# Altium integrated library Analog Devices Data Converters Digital-to-Analog Converters.IntLib: 2231 symbols (part 33 of 181)
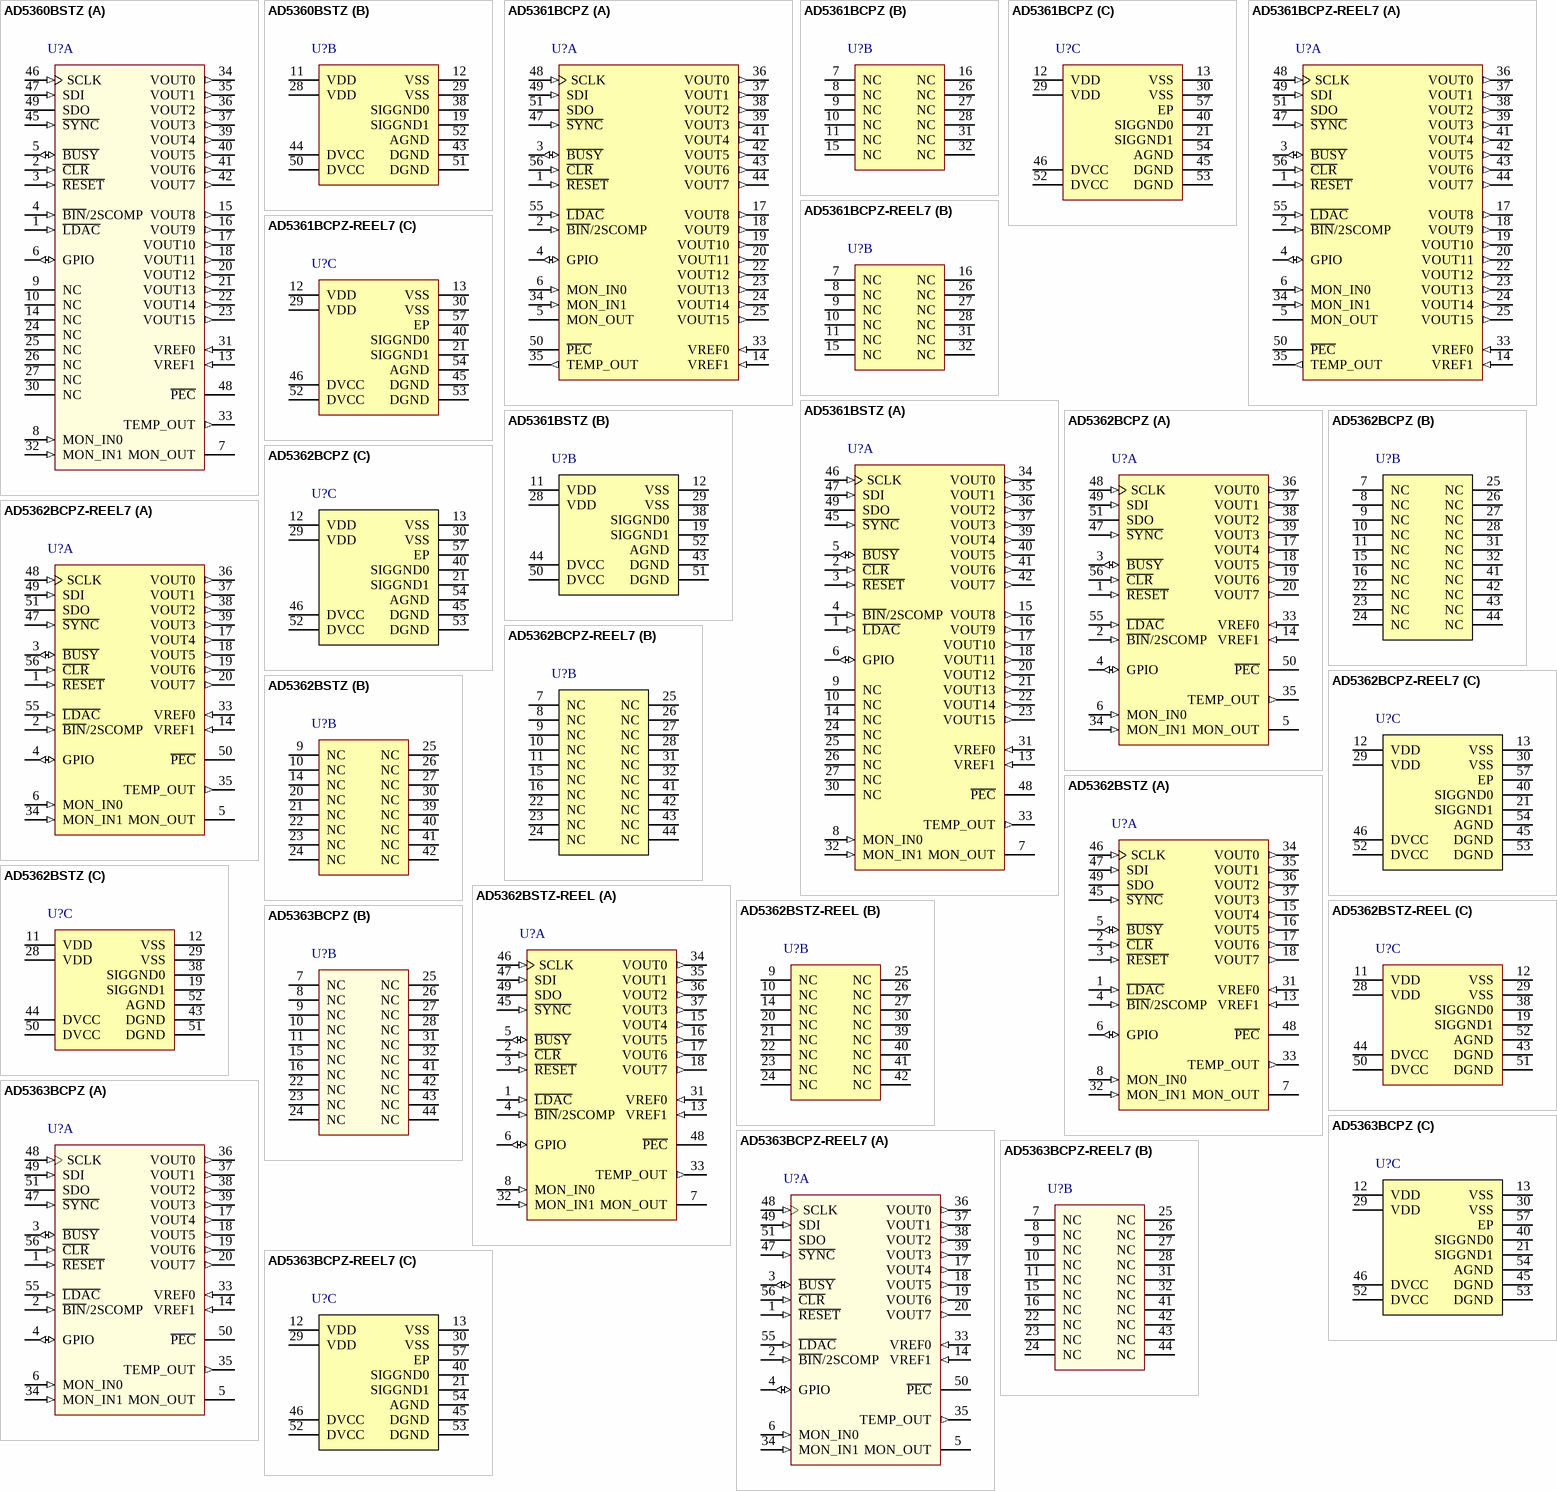
[diagram p146: symbols AD5360BSTZ to AD5363BCPZ-REEL7]

## AD5363BCPZ
designator U?
14-Bit Voltage Output Digital-to-Analog Converter with Serial Interface, -40 to +85 degC, CP-56-1, Pb-Free, Tray; Generic Part Number: AD5363; Manufacturer: Analog Devices; PartNumber: AD5363BCPZ; # DAC Outputs: 8; Max V+: 16.5V; Resolution (Bits): 14; Settling Time: 20µs; Single Supply: No; DatasheetVersion: Rev.A; PackageVersion: 112805-0; PackageReference: CP-56-1; PackageDescription: 56-Lead Lead Frame Chip Scale Package [LFCSP_VQ], 8 x 8 mm Body, Very Thin Quad; Supplier 1: Digi-Key; Supplier Part Number 1: AD5363BCPZ-ND; Supplier 2: Farnell; Supplier Part Number 2: 1607240; Supplier 3: Mouser; Supplier Part Number 3: 584-AD5363BCPZ; Packing: Tray; RoHS: Y; Mounting Technology: Surface Mount; Code_JEDEC: MO-220-VLLD-2; ComponentLink1Description: Manufacturer URL; ComponentLink1URL: http://www.analog.com/en/index.html; ComponentLink2Description: Datasheet; ComponentLink2URL: http://www.analog.com/static/imported-files/data_sheets/AD5362_5363.pdf; ComponentLink3Description: Package Specification; ComponentLink3URL: http://www.analog.com/static/imported-files/packages/32698137492825CP_56_1.pdf; ComponentLink4Description: Product URL; ComponentLink4URL: http://www.analog.com/en/digital-to-analog-converters/da-converters/ad5363/products/product.html
footprint CP-56-1_N (QFN, 56-Leads, Body 8x8mm, Pitch 0.5mm, Thermal Pad 6.1x6.1mm, IPC Medium Density)
footprint CP-56-1_L (QFN, 56-Leads, Body 8x8mm, Pitch 0.5mm, Thermal Pad 6.1x6.1mm, IPC High Density)
footprint CP-56-1_M (QFN, 56-Leads, Body 8x8mm, Pitch 0.5mm, Thermal Pad 6.1x6.1mm, IPC Low Density)
part A pins: 1 ~{RESET} (in) "Digital Reset Input.", 2 ~{BIN}/2SCOMP (in) "Data Format Digital Input. Connecting this pin to DGND selects offset binary. Setting this pin to 1 selects twos complement. This input has a weak pull-down.", 3 ~{BUSY} (io) "Digital Input/Open-Drain Output. B\U\SY\ is open drain when it is an output. See the B\U\S\Y\ and L\D\A\C\ Functions section for more information.", 4 GPIO (io) "Digital I/O Pin. This pin can be configured as an input or output that can be read back or programmed high or low via the serial interface. When configured as an input, this pin has a weak pull-down.", 5 MON_OUT (hiz) "Analog Multiplexer Output. Any DAC output, the MON_IN0 input, or the MON_IN1 input can be routed to this output for monitoring", 6 MON_IN0 (in) "Analog Multiplexer Input. Can be routed to MON_OUT.", 14 VREF1 (in) "Reference Input for DAC 4 to DAC 7. This reference voltage is referred to AGND.", 17 VOUT4 (out) "DAC Output. Buffered analog outputs for each of the eight DAC channels. Each analog output is capable of driving an output load of 10 k ohm to ground. Typical output impedance of these amplifiers is 0.5 ohm.", 18 VOUT5 (out) "DAC Output. Buffered analog outputs for each of the eight DAC channels. Each analog output is capable of driving an output load of 10 k ohm to ground. Typical output impedance of these amplifiers is 0.5 ohm.", 19 VOUT6 (out) "DAC Output. Buffered analog outputs for each of the eight DAC channels. Each analog output is capable of driving an output load of 10 k ohm to ground. Typical output impedance of these amplifiers is 0.5 ohm.", 20 VOUT7 (out) "DAC Output. Buffered analog outputs for each of the eight DAC channels. Each analog output is capable of driving an output load of 10 k ohm to ground. Typical output impedance of these amplifiers is 0.5 ohm.", 33 VREF0 (in) "Reference Input for DAC 0 to DAC 3. This reference voltage is referred to AGND.", 34 MON_IN1 (in) "Analog Multiplexer Input. Can be routed to MON_OUT.", 35 TEMP_OUT (out) "Provides an output voltage proportional to the chip temperature, typically 1.46 V at 25degreesC with an output variation of 4.4 mV/degreesC", 36 VOUT0 (out) "DAC Output. Buffered analog outputs for each of the eight DAC channels. Each analog output is capable of driving an output load of 10 k ohm to ground. Typical output impedance of these amplifiers is 0.5 ohm.", 37 VOUT1 (out) "DAC Output. Buffered analog outputs for each of the eight DAC channels. Each analog output is capable of driving an output load of 10 k ohm to ground. Typical output impedance of these amplifiers is 0.5 ohm.", 38 VOUT2 (out) "DAC Output. Buffered analog outputs for each of the eight DAC channels. Each analog output is capable of driving an output load of 10 k ohm to ground. Typical output impedance of these amplifiers is 0.5 ohm.", 39 VOUT3 (out) "DAC Output. Buffered analog outputs for each of the eight DAC channels. Each analog output is capable of driving an output load of 10 k ohm to ground. Typical output impedance of these amplifiers is 0.5 ohm.", 47 ~{SYNC} (in) "Active Low or S\Y\N\C\ Input for SPI Interface. This is the frame synchronization signal for the SPI serial interface. See , , and the section for more details. Figure 4Figure 5Serial Interface", 48 SCLK (in) "Serial Clock Input for SPI Interface. See Figure 4, Figure 5, and the Serial Interface section for more details.", 49 SDI (in) "Serial Data Input for SPI Interface. See Figure 4, Figure 5, and the Serial Interface section for more details.", 50 ~{PEC} (oc) "Packet Error Check Output. This is an open-drain output with a 50 k ohm pull-up that goes low if the packet error check fails.", 51 SDO (hiz) "Serial Data Output for SPI Interface. See Figure 4, Figure 5, and the Serial Interface section for more details.", 55 ~{LDAC} (in) "Load DAC Logic Input (Active Low). See the BUSY and LDAC Functions section for more information", 56 ~{CLR} (in) "Asynchronous Clear Input (Level Sensitive, Active Low). See the Clear Function section for more information"
part B pins: 7 NC "No Connect.", 8 NC "No Connect.", 9 NC "No Connect.", 10 NC "No Connect.", 11 NC "No Connect.", 15 NC "No Connect.", 16 NC "No Connect.", 22 NC "No Connect.", 23 NC "No Connect.", 24 NC "No Connect.", 25 NC "No Connect.", 26 NC "No Connect.", 27 NC "No Connect.", 28 NC "No Connect.", 31 NC "No Connect.", 32 NC "No Connect.", 41 NC "No Connect.", 42 NC "No Connect.", 43 NC "No Connect.", 44 NC "No Connect."
part C pins: 12 VDD (power) "Positive Analog Power Supply; 9 V to 16.5 V for specified performance. These pins should be decoupled with 0.1 uF ceramic capacitors and 10 uF capacitors", 13 VSS (power) "Negative Analog Power Supply; -16.5 V to -8 V for specified performance. These pins should be decoupled with 0.1 uF ceramic capacitors and 10 uF capacitors.", 21 SIGGND1 (power) "Reference Ground for DAC 4 to DAC 7. VOUT4 to VOUT7 are referenced to this voltage.", 29 VDD (power) "Positive Analog Power Supply; 9 V to 16.5 V for specified performance. These pins should be decoupled with 0.1 uF ceramic capacitors and 10 uF capacitors", 30 VSS (power) "Negative Analog Power Supply; -16.5 V to -8 V for specified performance. These pins should be decoupled with 0.1 uF ceramic capacitors and 10 uF capacitors.", 40 SIGGND0 (power) "Reference Ground for DAC 0 to DAC 3. VOUT0 to VOUT3 are referenced to this voltage.", 45 DGND (power) "Ground for All Digital Circuitry. Both DGND pins should be connected to the DGND plane.", 46 DVCC (power) "Logic Power Supply; 2.5 V to 5.5 V. These pins should be decoupled with 0.1 uF ceramic capacitors and 10 uF capacitors.", 52 DVCC (power) "Logic Power Supply; 2.5 V to 5.5 V. These pins should be decoupled with 0.1 uF ceramic capacitors and 10 uF capacitors.", 53 DGND (power) "Ground for All Digital Circuitry. Both DGND pins should be connected to the DGND plane.", 54 AGND (power) "Ground for All Analog Circuitry. The AGND pin should be connected to the AGND plane.", 57 EP (power) "Exposed Paddle. Connect to VSS."

## AD5363BCPZ-REEL7
designator U?
14-Bit Voltage Output Digital-to-Analog Converter with Serial Interface, -40 to +85 degC, CP-56-1, Pb-Free, Reel; Generic Part Number: AD5363; Manufacturer: Analog Devices; PartNumber: AD5363BCPZ-REEL7; # DAC Outputs: 8; Max V+: 16.5V; Resolution (Bits): 14; Settling Time: 20µs; Single Supply: No; DatasheetVersion: Rev.A; PackageVersion: 112805-0; PackageReference: CP-56-1; PackageDescription: 56-Lead Lead Frame Chip Scale Package [LFCSP_VQ], 8 x 8 mm Body, Very Thin Quad; Supplier 1: Digi-Key; Supplier Part Number 1: AD5363BCPZ-REEL7-ND; Supplier 2: Mouser; Supplier Part Number 2: 584-AD5363BCPZ-R7; Packing: Reel; RoHS: Y; Mounting Technology: Surface Mount; Code_JEDEC: MO-220-VLLD-2; ComponentLink1Description: Manufacturer URL; ComponentLink1URL: http://www.analog.com/en/index.html; ComponentLink2Description: Datasheet; ComponentLink2URL: http://www.analog.com/static/imported-files/data_sheets/AD5362_5363.pdf; ComponentLink3Description: Package Specification; ComponentLink3URL: http://www.analog.com/static/imported-files/packages/32698137492825CP_56_1.pdf; ComponentLink4Description: Product URL; ComponentLink4URL: http://www.analog.com/en/digital-to-analog-converters/da-converters/ad5363/products/product.html
footprint CP-56-1_N (QFN, 56-Leads, Body 8x8mm, Pitch 0.5mm, Thermal Pad 6.1x6.1mm, IPC Medium Density)
footprint CP-56-1_L (QFN, 56-Leads, Body 8x8mm, Pitch 0.5mm, Thermal Pad 6.1x6.1mm, IPC High Density)
footprint CP-56-1_M (QFN, 56-Leads, Body 8x8mm, Pitch 0.5mm, Thermal Pad 6.1x6.1mm, IPC Low Density)
part A pins: 1 ~{RESET} (in) "Digital Reset Input.", 2 ~{BIN}/2SCOMP (in) "Data Format Digital Input. Connecting this pin to DGND selects offset binary. Setting this pin to 1 selects twos complement. This input has a weak pull-down.", 3 ~{BUSY} (io) "Digital Input/Open-Drain Output. B\U\SY\ is open drain when it is an output. See the B\U\S\Y\ and L\D\A\C\ Functions section for more information.", 4 GPIO (io) "Digital I/O Pin. This pin can be configured as an input or output that can be read back or programmed high or low via the serial interface. When configured as an input, this pin has a weak pull-down.", 5 MON_OUT (hiz) "Analog Multiplexer Output. Any DAC output, the MON_IN0 input, or the MON_IN1 input can be routed to this output for monitoring", 6 MON_IN0 (in) "Analog Multiplexer Input. Can be routed to MON_OUT.", 14 VREF1 (in) "Reference Input for DAC 4 to DAC 7. This reference voltage is referred to AGND.", 17 VOUT4 (out) "DAC Output. Buffered analog outputs for each of the eight DAC channels. Each analog output is capable of driving an output load of 10 k ohm to ground. Typical output impedance of these amplifiers is 0.5 ohm.", 18 VOUT5 (out) "DAC Output. Buffered analog outputs for each of the eight DAC channels. Each analog output is capable of driving an output load of 10 k ohm to ground. Typical output impedance of these amplifiers is 0.5 ohm.", 19 VOUT6 (out) "DAC Output. Buffered analog outputs for each of the eight DAC channels. Each analog output is capable of driving an output load of 10 k ohm to ground. Typical output impedance of these amplifiers is 0.5 ohm.", 20 VOUT7 (out) "DAC Output. Buffered analog outputs for each of the eight DAC channels. Each analog output is capable of driving an output load of 10 k ohm to ground. Typical output impedance of these amplifiers is 0.5 ohm.", 33 VREF0 (in) "Reference Input for DAC 0 to DAC 3. This reference voltage is referred to AGND.", 34 MON_IN1 (in) "Analog Multiplexer Input. Can be routed to MON_OUT.", 35 TEMP_OUT (out) "Provides an output voltage proportional to the chip temperature, typically 1.46 V at 25degreesC with an output variation of 4.4 mV/degreesC", 36 VOUT0 (out) "DAC Output. Buffered analog outputs for each of the eight DAC channels. Each analog output is capable of driving an output load of 10 k ohm to ground. Typical output impedance of these amplifiers is 0.5 ohm.", 37 VOUT1 (out) "DAC Output. Buffered analog outputs for each of the eight DAC channels. Each analog output is capable of driving an output load of 10 k ohm to ground. Typical output impedance of these amplifiers is 0.5 ohm.", 38 VOUT2 (out) "DAC Output. Buffered analog outputs for each of the eight DAC channels. Each analog output is capable of driving an output load of 10 k ohm to ground. Typical output impedance of these amplifiers is 0.5 ohm.", 39 VOUT3 (out) "DAC Output. Buffered analog outputs for each of the eight DAC channels. Each analog output is capable of driving an output load of 10 k ohm to ground. Typical output impedance of these amplifiers is 0.5 ohm.", 47 ~{SYNC} (in) "Active Low or S\Y\N\C\ Input for SPI Interface. This is the frame synchronization signal for the SPI serial interface. See , , and the section for more details. Figure 4Figure 5Serial Interface", 48 SCLK (in) "Serial Clock Input for SPI Interface. See Figure 4, Figure 5, and the Serial Interface section for more details.", 49 SDI (in) "Serial Data Input for SPI Interface. See Figure 4, Figure 5, and the Serial Interface section for more details.", 50 ~{PEC} (oc) "Packet Error Check Output. This is an open-drain output with a 50 k ohm pull-up that goes low if the packet error check fails.", 51 SDO (hiz) "Serial Data Output for SPI Interface. See Figure 4, Figure 5, and the Serial Interface section for more details.", 55 ~{LDAC} (in) "Load DAC Logic Input (Active Low). See the BUSY and LDAC Functions section for more information", 56 ~{CLR} (in) "Asynchronous Clear Input (Level Sensitive, Active Low). See the Clear Function section for more information"
part B pins: 7 NC "No Connect.", 8 NC "No Connect.", 9 NC "No Connect.", 10 NC "No Connect.", 11 NC "No Connect.", 15 NC "No Connect.", 16 NC "No Connect.", 22 NC "No Connect.", 23 NC "No Connect.", 24 NC "No Connect.", 25 NC "No Connect.", 26 NC "No Connect.", 27 NC "No Connect.", 28 NC "No Connect.", 31 NC "No Connect.", 32 NC "No Connect.", 41 NC "No Connect.", 42 NC "No Connect.", 43 NC "No Connect.", 44 NC "No Connect."
part C pins: 12 VDD (power) "Positive Analog Power Supply; 9 V to 16.5 V for specified performance. These pins should be decoupled with 0.1 uF ceramic capacitors and 10 uF capacitors", 13 VSS (power) "Negative Analog Power Supply; -16.5 V to -8 V for specified performance. These pins should be decoupled with 0.1 uF ceramic capacitors and 10 uF capacitors.", 21 SIGGND1 (power) "Reference Ground for DAC 4 to DAC 7. VOUT4 to VOUT7 are referenced to this voltage.", 29 VDD (power) "Positive Analog Power Supply; 9 V to 16.5 V for specified performance. These pins should be decoupled with 0.1 uF ceramic capacitors and 10 uF capacitors", 30 VSS (power) "Negative Analog Power Supply; -16.5 V to -8 V for specified performance. These pins should be decoupled with 0.1 uF ceramic capacitors and 10 uF capacitors.", 40 SIGGND0 (power) "Reference Ground for DAC 0 to DAC 3. VOUT0 to VOUT3 are referenced to this voltage.", 45 DGND (power) "Ground for All Digital Circuitry. Both DGND pins should be connected to the DGND plane.", 46 DVCC (power) "Logic Power Supply; 2.5 V to 5.5 V. These pins should be decoupled with 0.1 uF ceramic capacitors and 10 uF capacitors.", 52 DVCC (power) "Logic Power Supply; 2.5 V to 5.5 V. These pins should be decoupled with 0.1 uF ceramic capacitors and 10 uF capacitors.", 53 DGND (power) "Ground for All Digital Circuitry. Both DGND pins should be connected to the DGND plane.", 54 AGND (power) "Ground for All Analog Circuitry. The AGND pin should be connected to the AGND plane.", 57 EP (power) "Exposed Paddle. Connect to VSS."

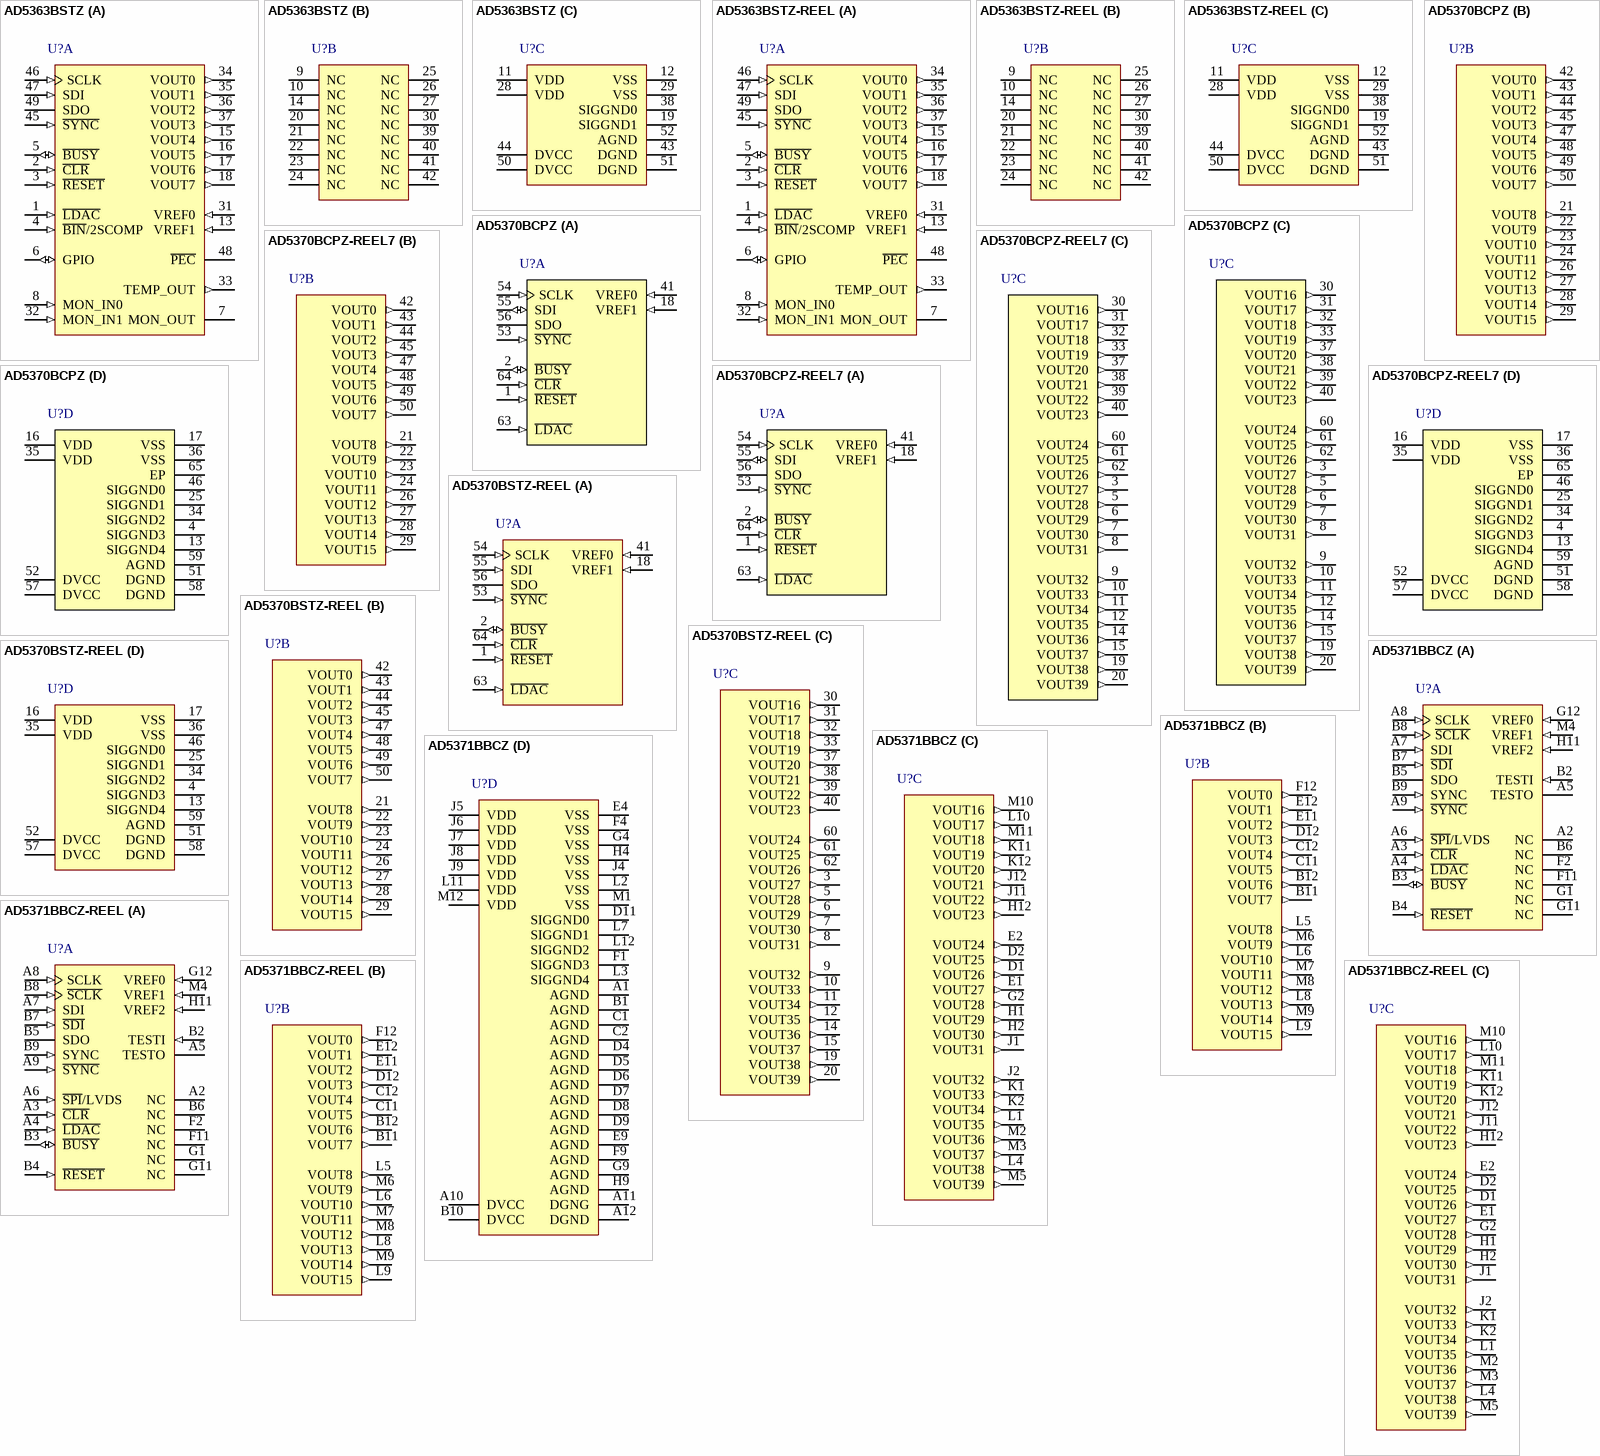
[diagram p20: symbols AD5363BSTZ to AD5371BBCZ-REEL]

## AD5363BSTZ
designator U?
14-Bit Voltage Output Digital-to-Analog Converter with Serial Interface, -40 to +85 degC, ST-52, Pb-Free, Tray; Generic Part Number: AD5363; Manufacturer: Analog Devices; PartNumber: AD5363BSTZ; # DAC Outputs: 8; Max V+: 16.5V; Resolution (Bits): 14; Settling Time: 20µs; Single Supply: No; DatasheetVersion: Rev.A; PackageVersion: 2003; PackageReference: ST-52; PackageDescription: 52-Lead Low Profile Quad Flat Package [LQFP]; Supplier 1: Digi-Key; Supplier Part Number 1: AD5363BSTZ-ND; Supplier 2: Mouser; Supplier Part Number 2: 584-AD5363BSTZ; Packing: Tray; RoHS: Y; Mounting Technology: Surface Mount; Code_JEDEC: MS-026-BCC; ComponentLink1Description: Manufacturer URL; ComponentLink1URL: http://www.analog.com/en/index.html; ComponentLink2Description: Datasheet; ComponentLink2URL: http://www.analog.com/static/imported-files/data_sheets/AD5362_5363.pdf; ComponentLink3Description: Package Specification; ComponentLink3URL: http://www.analog.com/static/imported-files/packages/61012411624300842189414155189544791816408612ST_52_10x10.pdf; ComponentLink4Description: Product URL; ComponentLink4URL: http://www.analog.com/en/digital-to-analog-converters/da-converters/ad5363/products/product.html
footprint ST-52_N (Thin QFP, 52-Leads, Body 10 x 10mm, Pitch 0.65mm, IPC Medium Density)
footprint ST-52_L (Thin QFP, 52-Leads, Body 10 x 10mm, Pitch 0.65mm, IPC High Density)
footprint ST-52_M (Thin QFP, 52-Leads, Body 10 x 10mm, Pitch 0.65mm, IPC Low Density)
part A pins: 1 ~{LDAC} (in) "Load DAC Logic Input (Active Low). See the B\U\S\Y\ and L\D\A\C\ Functions section for more information.", 2 ~{CLR} (in) "Asynchronous Clear Input (Level Sensitive, Active Low). See the Clear Function section for more information.", 3 ~{RESET} (in) "Digital Reset Input", 4 ~{BIN}/2SCOMP (in) "Data Format Digital Input. Connecting this pin to DGND selects offset binary. Setting this pin to 1 selects twos complement. This input has a weak pull-down.", 5 ~{BUSY} (io) "Digital Input/Open-Drain Output. B\U\S\Y\ is open drain when it is an output. See the B\U\S\Y\ and L\D\A\C\ Functions section for more information.", 6 GPIO (io) "Digital I/O Pin. This pin can be configured as an input or output that can be read back or programmed high or low via the serial interface. When configured as an input, this pin has weak pull-down.", 7 MON_OUT (hiz) "Analog Multiplexer Output. Any DAC output, the MON_IN0 input, or the MON_IN1 input can be routed to this output for monitoring.", 8 MON_IN0 (in) "Analog Multiplexer Inputs. Can be routed to MON_OUT.", 13 VREF1 (in) "Reference Input for DAC 4 to DAC 7. This reference voltage is referred to AGND.", 15 VOUT4 (out) "DAC Output. Buffered analog outputs for each of the eight DAC channels. Each analog output is capable of driving an output load of 10 kO to ground. Typical output impedance of these amplifiers is 0.5 O", 16 VOUT5 (out) "DAC Output. Buffered analog outputs for each of the eight DAC channels. Each analog output is capable of driving an output load of 10 kO to ground. Typical output impedance of these amplifiers is 0.5 O", 17 VOUT6 (out) "DAC Output. Buffered analog outputs for each of the eight DAC channels. Each analog output is capable of driving an output load of 10 kO to ground. Typical output impedance of these amplifiers is 0.5 O", 18 VOUT7 (out) "DAC Output. Buffered analog outputs for each of the eight DAC channels. Each analog output is capable of driving an output load of 10 kO to ground. Typical output impedance of these amplifiers is 0.5 O", 31 VREF0 (in) "Reference Input for DAC 0 to DAC 3. This reference voltage is referred to AGND.", 32 MON_IN1 (in) "Analog Multiplexer Inputs. Can be routed to MON_OUT.", 33 TEMP_OUT (out) "Provides an output voltage proportional to the chip temperature, typically 1.46 V at 25degreesC with an output variation of 4.4 mV/degreesC.", 34 VOUT0 (out) "DAC Output. Buffered analog outputs for each of the eight DAC channels. Each analog output is capable of driving an output load of 10 kO to ground. Typical output impedance of these amplifiers is 0.5 O", 35 VOUT1 (out) "DAC Output. Buffered analog outputs for each of the eight DAC channels. Each analog output is capable of driving an output load of 10 kO to ground. Typical output impedance of these amplifiers is 0.5 O", 36 VOUT2 (out) "DAC Output. Buffered analog outputs for each of the eight DAC channels. Each analog output is capable of driving an output load of 10 kO to ground. Typical output impedance of these amplifiers is 0.5 O", 37 VOUT3 (out) "DAC Output. Buffered analog outputs for each of the eight DAC channels. Each analog output is capable of driving an output load of 10 kO to ground. Typical output impedance of these amplifiers is 0.5 O", 45 ~{SYNC} (in) "Active Low or S\Y\N\C\  Input for SPI Interface. This is the frame synchronization signal for the SPI serial interface. See Figure 4 , Figure 5, and the  Serial Interface section for more details", 46 SCLK (in) "Serial Clock Input for SPI Interface. See Figure 4, Figure 5, and the Serial Interface section for more details", 47 SDI (in) "Serial Data Input for SPI Interface. See Figure 4, Figure 5, and the Serial Interface section for more details.", 48 ~{PEC} (oc) "Packet Error Check Output. This is an open-drain output with a 50 kO pull-up that goes low if the packet error check fails.", 49 SDO (hiz) "Serial Data Output for SPI Interface. See Figure 4, Figure 5, and the Serial Interface section for more details."
part B pins: 9 NC "No Connect", 10 NC "No Connect", 14 NC "No Connect", 20 NC "No Connect", 21 NC "No Connect", 22 NC "No Connect", 23 NC "No Connect", 24 NC "No Connect", 25 NC "No Connect", 26 NC "No Connect", 27 NC "No Connect", 30 NC "No Connect", 39 NC "No Connect", 40 NC "No Connect", 41 NC "No Connect", 42 NC "No Connect"
part C pins: 11 VDD (power) "Positive Analog Power Supply; 9 V to 16.5 V for specified performance. These pins should be decoupled with 0.1 uF ceramic capacitors and 10 uF capacitors.", 12 VSS (power) "Negative Analog Power Supply; -16.5 V to -8 V for specified performance. These pins should be decoupled with 0.1 uF ceramic capacitors and 10 uF capacitors.", 19 SIGGND1 (power) "Reference Ground for DAC 4 to DAC 7. VOUT4 to VOUT7 are referenced to this voltage.", 28 VDD (power) "Positive Analog Power Supply; 9 V to 16.5 V for specified performance. These pins should be decoupled with 0.1 uF ceramic capacitors and 10 uF capacitors.", 29 VSS (power) "Negative Analog Power Supply; -16.5 V to -8 V for specified performance. These pins should be decoupled with 0.1 uF ceramic capacitors and 10 uF capacitors.", 38 SIGGND0 (power) "Reference Ground for DAC 0 to DAC 3. VOUT0 to VOUT3 are referenced to this voltage.", 43 DGND (power) "Ground for All Digital Circuitry. Both DGND pins should be connected to the DGND plane.", 44 DVCC (power) "Logic Power Supply; 2.5 V to 5.5 V. These pins should be decoupled with 0.1 uF ceramic capacitors and 10 uF capacitors", 50 DVCC (power) "Logic Power Supply; 2.5 V to 5.5 V. These pins should be decoupled with 0.1 uF ceramic capacitors and 10 uF capacitors", 51 DGND (power) "Ground for All Digital Circuitry. Both DGND pins should be connected to the DGND plane.", 52 AGND (power) "Ground for All Analog Circuitry. The AGND pin should be connected to the AGND plane."

## AD5363BSTZ-REEL
designator U?
14-Bit Voltage Output Digital-to-Analog Converter with Serial Interface, -40 to +85 degC, ST-52, Pb-Free, Reel; Generic Part Number: AD5363; Manufacturer: Analog Devices; PartNumber: AD5363BSTZ-REEL; # DAC Outputs: 8; Max V+: 16.5V; Resolution (Bits): 14; Settling Time: 20µs; Single Supply: No; DatasheetVersion: Rev.A; PackageVersion: 2003; PackageReference: ST-52; PackageDescription: 52-Lead Low Profile Quad Flat Package [LQFP]; Supplier 1: Digi-Key; Supplier Part Number 1: AD5363BSTZ-REEL-ND; Supplier 2: Mouser; Supplier Part Number 2: 584-AD5363BSTZ-R; Packing: Reel; RoHS: Y; Mounting Technology: Surface Mount; Code_JEDEC: MS-026-BCC; ComponentLink1Description: Manufacturer URL; ComponentLink1URL: http://www.analog.com/en/index.html; ComponentLink2Description: Datasheet; ComponentLink2URL: http://www.analog.com/static/imported-files/data_sheets/AD5362_5363.pdf; ComponentLink3Description: Package Specification; ComponentLink3URL: http://www.analog.com/static/imported-files/packages/61012411624300842189414155189544791816408612ST_52_10x10.pdf; ComponentLink4Description: Product URL; ComponentLink4URL: http://www.analog.com/en/digital-to-analog-converters/da-converters/ad5363/products/product.html
footprint ST-52_N (Thin QFP, 52-Leads, Body 10 x 10mm, Pitch 0.65mm, IPC Medium Density)
footprint ST-52_L (Thin QFP, 52-Leads, Body 10 x 10mm, Pitch 0.65mm, IPC High Density)
footprint ST-52_M (Thin QFP, 52-Leads, Body 10 x 10mm, Pitch 0.65mm, IPC Low Density)
part A pins: 1 ~{LDAC} (in) "Load DAC Logic Input (Active Low). See the B\U\S\Y\ and L\D\A\C\ Functions section for more information.", 2 ~{CLR} (in) "Asynchronous Clear Input (Level Sensitive, Active Low). See the Clear Function section for more information.", 3 ~{RESET} (in) "Digital Reset Input", 4 ~{BIN}/2SCOMP (in) "Data Format Digital Input. Connecting this pin to DGND selects offset binary. Setting this pin to 1 selects twos complement. This input has a weak pull-down.", 5 ~{BUSY} (io) "Digital Input/Open-Drain Output. B\U\S\Y\ is open drain when it is an output. See the B\U\S\Y\ and L\D\A\C\ Functions section for more information.", 6 GPIO (io) "Digital I/O Pin. This pin can be configured as an input or output that can be read back or programmed high or low via the serial interface. When configured as an input, this pin has weak pull-down.", 7 MON_OUT (hiz) "Analog Multiplexer Output. Any DAC output, the MON_IN0 input, or the MON_IN1 input can be routed to this output for monitoring.", 8 MON_IN0 (in) "Analog Multiplexer Inputs. Can be routed to MON_OUT.", 13 VREF1 (in) "Reference Input for DAC 4 to DAC 7. This reference voltage is referred to AGND.", 15 VOUT4 (out) "DAC Output. Buffered analog outputs for each of the eight DAC channels. Each analog output is capable of driving an output load of 10 kO to ground. Typical output impedance of these amplifiers is 0.5 O", 16 VOUT5 (out) "DAC Output. Buffered analog outputs for each of the eight DAC channels. Each analog output is capable of driving an output load of 10 kO to ground. Typical output impedance of these amplifiers is 0.5 O", 17 VOUT6 (out) "DAC Output. Buffered analog outputs for each of the eight DAC channels. Each analog output is capable of driving an output load of 10 kO to ground. Typical output impedance of these amplifiers is 0.5 O", 18 VOUT7 (out) "DAC Output. Buffered analog outputs for each of the eight DAC channels. Each analog output is capable of driving an output load of 10 kO to ground. Typical output impedance of these amplifiers is 0.5 O", 31 VREF0 (in) "Reference Input for DAC 0 to DAC 3. This reference voltage is referred to AGND.", 32 MON_IN1 (in) "Analog Multiplexer Inputs. Can be routed to MON_OUT.", 33 TEMP_OUT (out) "Provides an output voltage proportional to the chip temperature, typically 1.46 V at 25degreesC with an output variation of 4.4 mV/degreesC.", 34 VOUT0 (out) "DAC Output. Buffered analog outputs for each of the eight DAC channels. Each analog output is capable of driving an output load of 10 kO to ground. Typical output impedance of these amplifiers is 0.5 O", 35 VOUT1 (out) "DAC Output. Buffered analog outputs for each of the eight DAC channels. Each analog output is capable of driving an output load of 10 kO to ground. Typical output impedance of these amplifiers is 0.5 O", 36 VOUT2 (out) "DAC Output. Buffered analog outputs for each of the eight DAC channels. Each analog output is capable of driving an output load of 10 kO to ground. Typical output impedance of these amplifiers is 0.5 O", 37 VOUT3 (out) "DAC Output. Buffered analog outputs for each of the eight DAC channels. Each analog output is capable of driving an output load of 10 kO to ground. Typical output impedance of these amplifiers is 0.5 O", 45 ~{SYNC} (in) "Active Low or S\Y\N\C\  Input for SPI Interface. This is the frame synchronization signal for the SPI serial interface. See Figure 4 , Figure 5, and the  Serial Interface section for more details", 46 SCLK (in) "Serial Clock Input for SPI Interface. See Figure 4, Figure 5, and the Serial Interface section for more details", 47 SDI (in) "Serial Data Input for SPI Interface. See Figure 4, Figure 5, and the Serial Interface section for more details.", 48 ~{PEC} (oc) "Packet Error Check Output. This is an open-drain output with a 50 kO pull-up that goes low if the packet error check fails.", 49 SDO (hiz) "Serial Data Output for SPI Interface. See Figure 4, Figure 5, and the Serial Interface section for more details."
part B pins: 9 NC "No Connect", 10 NC "No Connect", 14 NC "No Connect", 20 NC "No Connect", 21 NC "No Connect", 22 NC "No Connect", 23 NC "No Connect", 24 NC "No Connect", 25 NC "No Connect", 26 NC "No Connect", 27 NC "No Connect", 30 NC "No Connect", 39 NC "No Connect", 40 NC "No Connect", 41 NC "No Connect", 42 NC "No Connect"
part C pins: 11 VDD (power) "Positive Analog Power Supply; 9 V to 16.5 V for specified performance. These pins should be decoupled with 0.1 uF ceramic capacitors and 10 uF capacitors.", 12 VSS (power) "Negative Analog Power Supply; -16.5 V to -8 V for specified performance. These pins should be decoupled with 0.1 uF ceramic capacitors and 10 uF capacitors.", 19 SIGGND1 (power) "Reference Ground for DAC 4 to DAC 7. VOUT4 to VOUT7 are referenced to this voltage.", 28 VDD (power) "Positive Analog Power Supply; 9 V to 16.5 V for specified performance. These pins should be decoupled with 0.1 uF ceramic capacitors and 10 uF capacitors.", 29 VSS (power) "Negative Analog Power Supply; -16.5 V to -8 V for specified performance. These pins should be decoupled with 0.1 uF ceramic capacitors and 10 uF capacitors.", 38 SIGGND0 (power) "Reference Ground for DAC 0 to DAC 3. VOUT0 to VOUT3 are referenced to this voltage.", 43 DGND (power) "Ground for All Digital Circuitry. Both DGND pins should be connected to the DGND plane.", 44 DVCC (power) "Logic Power Supply; 2.5 V to 5.5 V. These pins should be decoupled with 0.1 uF ceramic capacitors and 10 uF capacitors", 50 DVCC (power) "Logic Power Supply; 2.5 V to 5.5 V. These pins should be decoupled with 0.1 uF ceramic capacitors and 10 uF capacitors", 51 DGND (power) "Ground for All Digital Circuitry. Both DGND pins should be connected to the DGND plane.", 52 AGND (power) "Ground for All Analog Circuitry. The AGND pin should be connected to the AGND plane."

## AD5370BCPZ
designator U?
16-Bit Voltage Output Digital-to-Analog Converter with Serial Interface, -40 to +85 degC, CP-64-3, Pb-Free, Tray; Generic Part Number: AD5370; Manufacturer: Analog Devices; PartNumber: AD5370BCPZ; # DAC Outputs: 40; Max V+: 16.5V; Op Pwr Diss: 610mW; Resolution (Bits): 16; Settling Time: 20µs; Single Supply: No; DatasheetVersion: Rev.0; PackageVersion: 051007-C; PackageReference: CP-64-3; PackageDescription: 64-Lead Lead Frame Chip Scale Package [LFCSP_VQ] 9 x 9 mm Body, Very Thin Quad; Supplier 1: Digi-Key; Supplier Part Number 1: AD5370BCPZ-ND; Supplier 2: Farnell; Supplier Part Number 2: 1607227; Supplier 3: Newark; Supplier Part Number 3: 34M4975; Supplier 4: Mouser; Supplier Part Number 4: 584-AD5370BCPZ; Packing: Tray; RoHS: Y; Mounting Technology: Surface Mount; Code_JEDEC: MO-220-VMMD-4; ComponentLink1Description: Manufacturer URL; ComponentLink1URL: http://www.analog.com/en/index.html; ComponentLink2Description: Datasheet; ComponentLink2URL: http://www.analog.com/static/imported-files/data_sheets/AD5370.pdf; ComponentLink3Description: Package Specification; ComponentLink3URL: http://www.analog.com/static/imported-files/packages/PKG_PDF/LFCSP(CP)/CP_64_3.pdf; ComponentLink4Description: Product URL; ComponentLink4URL: http://www.analog.com/en/digital-to-analog-converters/da-converters/ad5370/products/product.html; ComponentLink5Description: Reference Design URL; ComponentLink5URL: http://www.analog.com/en/digital-to-analog-converters/da-converters/ad5370/products/product.html#prod_cross_sell
footprint CP-64-3_N (QFN, 64-Leads, Body 9x9mm, Pitch 0.5mm, Thermal Pad 7.1x7.1mm, IPC Medium Density)
footprint CP-64-3_L (QFN, 64-Leads, Body 9x9mm, Pitch 0.5mm, Thermal Pad 7.1x7.1mm, IPC High Density)
footprint CP-64-3_M (QFN, 64-Leads, Body 9x9mm, Pitch 0.5mm, Thermal Pad 7.1x7.1mm, IPC Low Density)
part A pins: 1 ~{RESET} (in) "Digital Reset Input.", 2 ~{BUSY} (io) "B\U\S\Y\ Input/Output (Active Low). B\U\S\Y\ is open-drain when an output. See the B\U\S\Y\ and  L\D\A\C\ Functions section for more information.", 18 VREF1 (in) "Reference Input for DAC 8 to DAC 39. This reference voltage is referred to AGND.", 41 VREF0 (in) "Reference Input for DAC 0 to DAC 7. This reference voltage is referred to AGND.", 53 ~{SYNC} (in) "Active Low Input. This is the frame synchronization signal for the serial interface. See the Timing Characteristics section for more details.", 54 SCLK (in) "Serial Clock Input. Data is clocked into the shift register on the falling edge of SCLK. This pin operates at clock speeds up to 50 MHz. See the Timing Characteristics section for more details.", 55 SDI (io) "Serial Data Input. Data must be valid on the falling edge of SCLK. See the Timing Characteristics section for more details.", 56 SDO (hiz) "Serial Data Output for SPI Interface. CMOS output. SDO can be used for readback. Data is clocked out on SDO on the rising edge of SCLK and is valid on the falling edge of SCLK.", 63 ~{LDAC} (in) "Load DAC Logic Input (Active Low).", 64 ~{CLR} (in) "Asynchronous Clear Input (Level Sensitive, Active Low). See the Clear Function section for more information."
part B pins: 21 VOUT8 (out) "DAC Output. Buffered analog outputs for each of the 40 DAC channels. Each analog  output is capable of driving an output load of 10 kohm to ground. Typical output impedance  of these amplifiers is 0.5 ohm.", 22 VOUT9 (out) "DAC Output. Buffered analog outputs for each of the 40 DAC channels. Each analog  output is capable of driving an output load of 10 kohm to ground. Typical output impedance  of these amplifiers is 0.5 ohm.", 23 VOUT10 (out) "DAC Output. Buffered analog outputs for each of the 40 DAC channels. Each analog  output is capable of driving an output load of 10 kohm to ground. Typical output impedance  of these amplifiers is 0.5 ohm.", 24 VOUT11 (out) "DAC Output. Buffered analog outputs for each of the 40 DAC channels. Each analog  output is capable of driving an output load of 10 kohm to ground. Typical output impedance  of these amplifiers is 0.5 ohm.", 26 VOUT12 (out) "DAC Output. Buffered analog outputs for each of the 40 DAC channels. Each analog  output is capable of driving an output load of 10 kohm to ground. Typical output impedance  of these amplifiers is 0.5 ohm.", 27 VOUT13 (out) "DAC Output. Buffered analog outputs for each of the 40 DAC channels. Each analog  output is capable of driving an output load of 10 kohm to ground. Typical output impedance  of these amplifiers is 0.5 ohm.", 28 VOUT14 (out) "DAC Output. Buffered analog outputs for each of the 40 DAC channels. Each analog  output is capable of driving an output load of 10 kohm to ground. Typical output impedance  of these amplifiers is 0.5 ohm.", 29 VOUT15 (out) "DAC Output. Buffered analog outputs for each of the 40 DAC channels. Each analog  output is capable of driving an output load of 10 kohm to ground. Typical output impedance  of these amplifiers is 0.5 ohm.", 42 VOUT0 (out) "DAC Output. Buffered analog outputs for each of the 40 DAC channels. Each analog  output is capable of driving an output load of 10 kohm to ground. Typical output impedance  of these amplifiers is 0.5 ohm.", 43 VOUT1 (out) "DAC Output. Buffered analog outputs for each of the 40 DAC channels. Each analog  output is capable of driving an output load of 10 kohm to ground. Typical output impedance  of these amplifiers is 0.5 ohm.", 44 VOUT2 (out) "DAC Output. Buffered analog outputs for each of the 40 DAC channels. Each analog  output is capable of driving an output load of 10 kohm to ground. Typical output impedance  of these amplifiers is 0.5 ohm.", 45 VOUT3 (out) "DAC Output. Buffered analog outputs for each of the 40 DAC channels. Each analog  output is capable of driving an output load of 10 kohm to ground. Typical output impedance  of these amplifiers is 0.5 ohm.", 47 VOUT4 (out) "DAC Output. Buffered analog outputs for each of the 40 DAC channels. Each analog  output is capable of driving an output load of 10 kohm to ground. Typical output impedance  of these amplifiers is 0.5 ohm.", 48 VOUT5 (out) "DAC Output. Buffered analog outputs for each of the 40 DAC channels. Each analog  output is capable of driving an output load of 10 kohm to ground. Typical output impedance  of these amplifiers is 0.5 ohm.", 49 VOUT6 (out) "DAC Output. Buffered analog outputs for each of the 40 DAC channels. Each analog  output is capable of driving an output load of 10 kohm to ground. Typical output impedance  of these amplifiers is 0.5 ohm.", 50 VOUT7 (out) "DAC Output. Buffered analog outputs for each of the 40 DAC channels. Each analog  output is capable of driving an output load of 10 kohm to ground. Typical output impedance  of these amplifiers is 0.5 ohm."
part C pins: 3 VOUT27 (out) "DAC Output. Buffered analog outputs for each of the 40 DAC channels. Each analog  output is capable of driving an output load of 10 kohm to ground. Typical output impedance  of these amplifiers is 0.5 ohm.", 5 VOUT28 (out) "DAC Output. Buffered analog outputs for each of the 40 DAC channels. Each analog  output is capable of driving an output load of 10 kohm to ground. Typical output impedance  of these amplifiers is 0.5 ohm.", 6 VOUT29 (out) "DAC Output. Buffered analog outputs for each of the 40 DAC channels. Each analog  output is capable of driving an output load of 10 kohm to ground. Typical output impedance  of these amplifiers is 0.5 ohm.", 7 VOUT30 (out) "DAC Output. Buffered analog outputs for each of the 40 DAC channels. Each analog  output is capable of driving an output load of 10 kohm to ground. Typical output impedance  of these amplifiers is 0.5 ohm.", 8 VOUT31 (out) "DAC Output. Buffered analog outputs for each of the 40 DAC channels. Each analog  output is capable of driving an output load of 10 kohm to ground. Typical output impedance  of these amplifiers is 0.5 ohm.", 9 VOUT32 (out) "DAC Output. Buffered analog outputs for each of the 40 DAC channels. Each analog  output is capable of driving an output load of 10 kohm to ground. Typical output impedance  of these amplifiers is 0.5 ohm.", 10 VOUT33 (out) "DAC Output. Buffered analog outputs for each of the 40 DAC channels. Each analog  output is capable of driving an output load of 10 kohm to ground. Typical output impedance  of these amplifiers is 0.5 ohm.", 11 VOUT34 (out) "DAC Output. Buffered analog outputs for each of the 40 DAC channels. Each analog  output is capable of driving an output load of 10 kohm to ground. Typical output impedance  of these amplifiers is 0.5 ohm.", 12 VOUT35 (out) "DAC Output. Buffered analog outputs for each of the 40 DAC channels. Each analog  output is capable of driving an output load of 10 kohm to ground. Typical output impedance  of these amplifiers is 0.5 ohm.", 14 VOUT36 (out) "DAC Output. Buffered analog outputs for each of the 40 DAC channels. Each analog  output is capable of driving an output load of 10 kohm to ground. Typical output impedance  of these amplifiers is 0.5 ohm.", 15 VOUT37 (out) "DAC Output. Buffered analog outputs for each of the 40 DAC channels. Each analog  output is capable of driving an output load of 10 kohm to ground. Typical output impedance  of these amplifiers is 0.5 ohm.", 19 VOUT38 (out) "DAC Output. Buffered analog outputs for each of the 40 DAC channels. Each analog  output is capable of driving an output load of 10 kohm to ground. Typical output impedance  of these amplifiers is 0.5 ohm.", 20 VOUT39 (out) "DAC Output. Buffered analog outputs for each of the 40 DAC channels. Each analog  output is capable of driving an output load of 10 kohm to ground. Typical output impedance  of these amplifiers is 0.5 ohm.", 30 VOUT16 (out) "DAC Output. Buffered analog outputs for each of the 40 DAC channels. Each analog  output is capable of driving an output load of 10 kohm to ground. Typical output impedance  of these amplifiers is 0.5 ohm.", 31 VOUT17 (out) "DAC Output. Buffered analog outputs for each of the 40 DAC channels. Each analog  output is capable of driving an output load of 10 kohm to ground. Typical output impedance  of these amplifiers is 0.5 ohm.", 32 VOUT18 (out) "DAC Output. Buffered analog outputs for each of the 40 DAC channels. Each analog  output is capable of driving an output load of 10 kohm to ground. Typical output impedance  of these amplifiers is 0.5 ohm.", 33 VOUT19 (out) "DAC Output. Buffered analog outputs for each of the 40 DAC channels. Each analog  output is capable of driving an output load of 10 kohm to ground. Typical output impedance  of these amplifiers is 0.5 ohm.", 37 VOUT20 (out) "DAC Output. Buffered analog outputs for each of the 40 DAC channels. Each analog  output is capable of driving an output load of 10 kohm to ground. Typical output impedance  of these amplifiers is 0.5 ohm.", 38 VOUT21 (out) "DAC Output. Buffered analog outputs for each of the 40 DAC channels. Each analog  output is capable of driving an output load of 10 kohm to ground. Typical output impedance  of these amplifiers is 0.5 ohm.", 39 VOUT22 (out) "DAC Output. Buffered analog outputs for each of the 40 DAC channels. Each analog  output is capable of driving an output load of 10 kohm to ground. Typical output impedance  of these amplifiers is 0.5 ohm.", 40 VOUT23 (out) "DAC Output. Buffered analog outputs for each of the 40 DAC channels. Each analog  output is capable of driving an output load of 10 kohm to ground. Typical output impedance  of these amplifiers is 0.5 ohm.", 60 VOUT24 (out) "DAC Output. Buffered analog outputs for each of the 40 DAC channels. Each analog  output is capable of driving an output load of 10 kohm to ground. Typical output impedance  of these amplifiers is 0.5 ohm.", 61 VOUT25 (out) "DAC Output. Buffered analog outputs for each of the 40 DAC channels. Each analog  output is capable of driving an output load of 10 kohm to ground. Typical output impedance  of these amplifiers is 0.5 ohm.", 62 VOUT26 (out) "DAC Output. Buffered analog outputs for each of the 40 DAC channels. Each analog  output is capable of driving an output load of 10 kohm to ground. Typical output impedance  of these amplifiers is 0.5 ohm."
part D pins: 4 SIGGND3 (power) "Reference Ground for DAC 24 and DAC 31. VOUT24 to VOUT31 are referenced to this voltage.", 13 SIGGND4 (power) "Reference Ground for DAC 32 to DAC 39. VOUT32 to VOUT39 are referenced to this voltage.", 16 VDD (power) "Positive Analog Power Supply; +9 V to +16.5 V for specified performance. These pins should be decoupled with 0.1 uF ceramic capacitors and 10 uF capacitors.", 17 VSS (power) "Negative Analog Power Supply; -16.5 V to -8 V for specified performance. These pins should be decoupled with 0.1 uF ceramic capacitors and 10 uF capacitors.", 25 SIGGND1 (power) "Reference Ground for DAC 8 to DAC 15. VOUT8 to VOUT15 are referenced to this voltage.", 34 SIGGND2 (power) "Reference Ground for DAC 16 to DAC 23. VOUT16 to VOUT23 are referenced to this voltage.", 35 VDD (power) "Positive Analog Power Supply; +9 V to +16.5 V for specified performance. These pins should be decoupled with 0.1 uF ceramic capacitors and 10 uF capacitors.", 36 VSS (power) "Negative Analog Power Supply; -16.5 V to -8 V for specified performance. These pins should be decoupled with 0.1 uF ceramic capacitors and 10 uF capacitors.", 46 SIGGND0 (power) "Reference Ground for DAC 0 to DAC 7. VOUT0 to VOUT7 are referenced to this voltage.", 51 DGND (power) "Ground for All Digital Circuitry. Both DGND pins should be connected to the DGND plane.", 52 DVCC (power) "Logic Power Supply; 2.5 V to 5.5 V. These pins should be decoupled with 0.1 uF ceramic capacitors and 10 uF capacitors.", 57 DVCC (power) "Logic Power Supply; 2.5 V to 5.5 V. These pins should be decoupled with 0.1 uF ceramic capacitors and 10 uF capacitors.", 58 DGND (power) "Ground for All Digital Circuitry. Both DGND pins should be connected to the DGND plane.", 59 AGND (power) "Ground for All Analog Circuitry. The AGND pin should be connected to the AGND plane.", 65 EP (power) "The lead-free chip scale package (LFCSP) has an exposed paddle on the underside. The paddle should be connected to VSS."